# EAGLE library part SN74LV4052A (library Parts)
Dual 4-channel ANALOG MULTIPLEXER
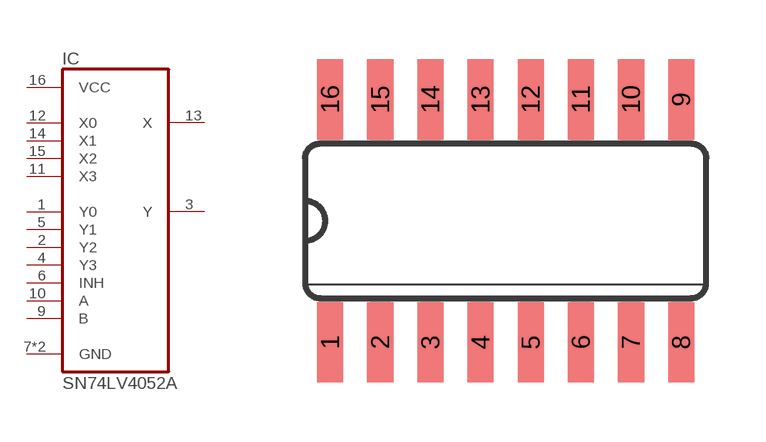
[diagram p1: symbol with the pads of SO16; footprint SO16]

Designator prefix IC

## SN74LV4052AD (MPN: SN74LV4052ADR)  [SO16]
1  Y0
2  Y2
3  Y
4  Y3
5  Y1
6  INH  in
7  GND
8  GND
9  B  in
10  A  in
11  X3
12  X0
13  X
14  X1
15  X2
16  VCC

## Footprint SO16 (pad centres in mm)
Small Outline package 150 mil
smd 0.66 x 2.032: 1 -4.445,-3.073; 2 -3.175,-3.073; 3 -1.905,-3.073; 4 -0.635,-3.073; 5 0.635,-3.073; 6 1.905,-3.073; 7 3.175,-3.073; 8 4.445,-3.073; 9 4.445,3.073; 10 3.175,3.073; 11 1.905,3.073; 12 0.635,3.073; 13 -0.635,3.073; 14 -1.905,3.073; 15 -3.175,3.073; 16 -4.445,3.073